# EAGLE library part RFM12_SMD (library rfm22b_me)
RFM12 is a low costing ISM band transceiver module implemented with unique PLL. It works signal ranges from 315/433/868/915MHZ bands, comply with FCC, ETSI regulation. The SPI interface is used to communicate with microcontroller for parameter setting.
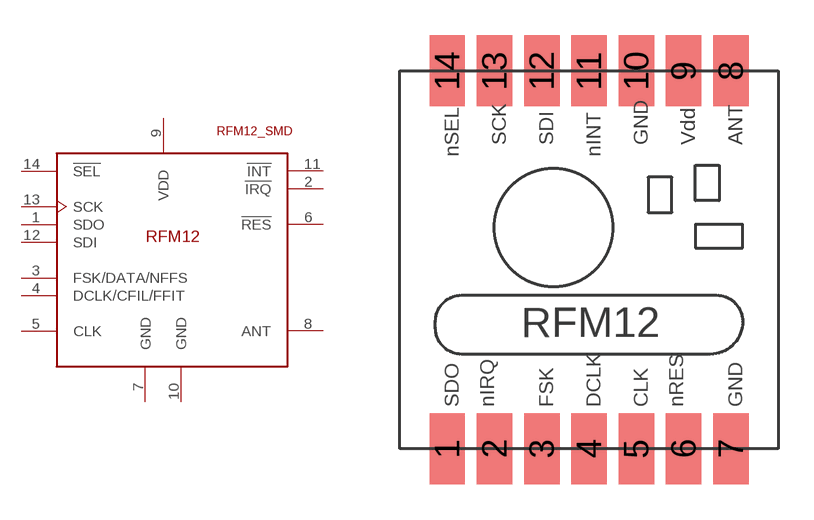
[diagram p1: symbol with the pads of RFM12; footprint RFM12]

Designator prefix -

## RFM12_SMDSMD  [RFM12]
1  SDO  out
2  !IRQ  out
3  FSK/DATA/NFFS
4  DCLK/CFIL/FFIT
5  CLK  out
6  !RES
7  GND  pas
8  ANT
9  VDD  sup
10  GND  pas
11  !INT
12  SDI  in
13  SCK  in
14  !SEL  in

## Footprint RFM12 (pad centres in mm)
smd 1.5 x 3: 1 -6.27,-7.84; 2 -4.27,-7.84; 3 -2.27,-7.84; 4 -0.27,-7.84; 5 1.73,-7.84; 6 3.73,-7.84; 7 5.73,-7.84; 8 5.73,8.16; 9 3.73,8.16; 10 1.73,8.16; 11 -0.27,8.16; 12 -2.27,8.16; 13 -4.27,8.16; 14 -6.27,8.16